# Altium footprint library 691305340002.PcbLib: 1 footprints
Each footprint in its own frame and in the unit in brackets; x right, y up, seen from the top. Pads: shape width x height; smd on the part's side, far side on the other; paste and mask are expansions set on the pad; w line width, h text height; cw(c..) or ccw(c..) is an arc to the next point about the centre after c.
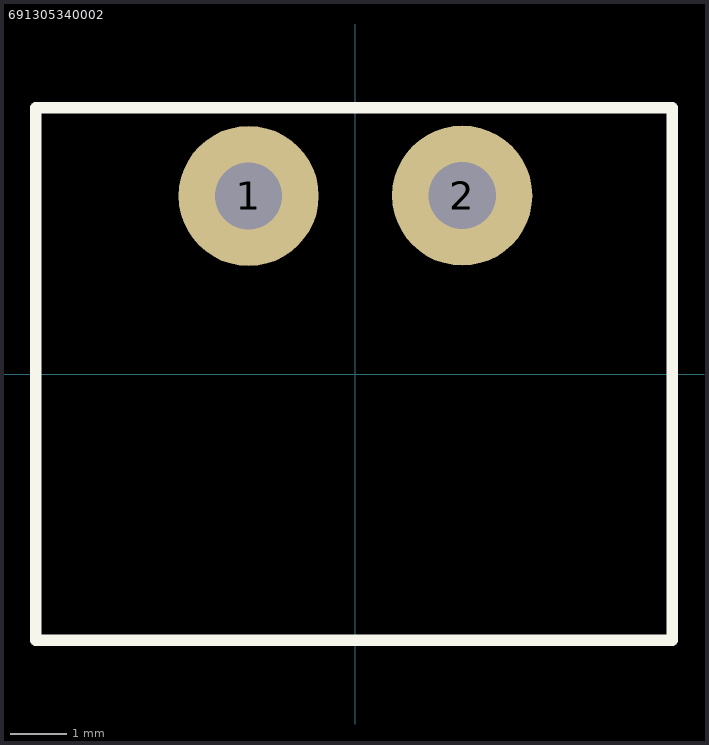
[diagram p0: the footprint, top view; thin cyan lines are the x and y axes]

## 691305340002 [mm]
pads (2):
  round 2.5 hole 1.2: 1(-1.905,3.175) 2(1.905,3.183)
Top Overlay:
  lines w0.2: -5.7,-4.75 5.65,-4.75 5.65,4.75 -5.7,4.75 -5.7,-4.75
3D body "691305340002+%28rev1%29.stp": height 7.3, standoff -3.4, extent -5.555,-4.6 5.555,4.6